# Altium footprint library AltiumOpenLibs.PcbLib: 173 footprints (part 5 of 11)
Each footprint in its own frame and in the unit in brackets; x right, y up, seen from the top. Pads: shape width x height; smd on the part's side, far side on the other; paste and mask are expansions set on the pad; w line width, h text height; cw(c..) or ccw(c..) is an arc to the next point about the centre after c.
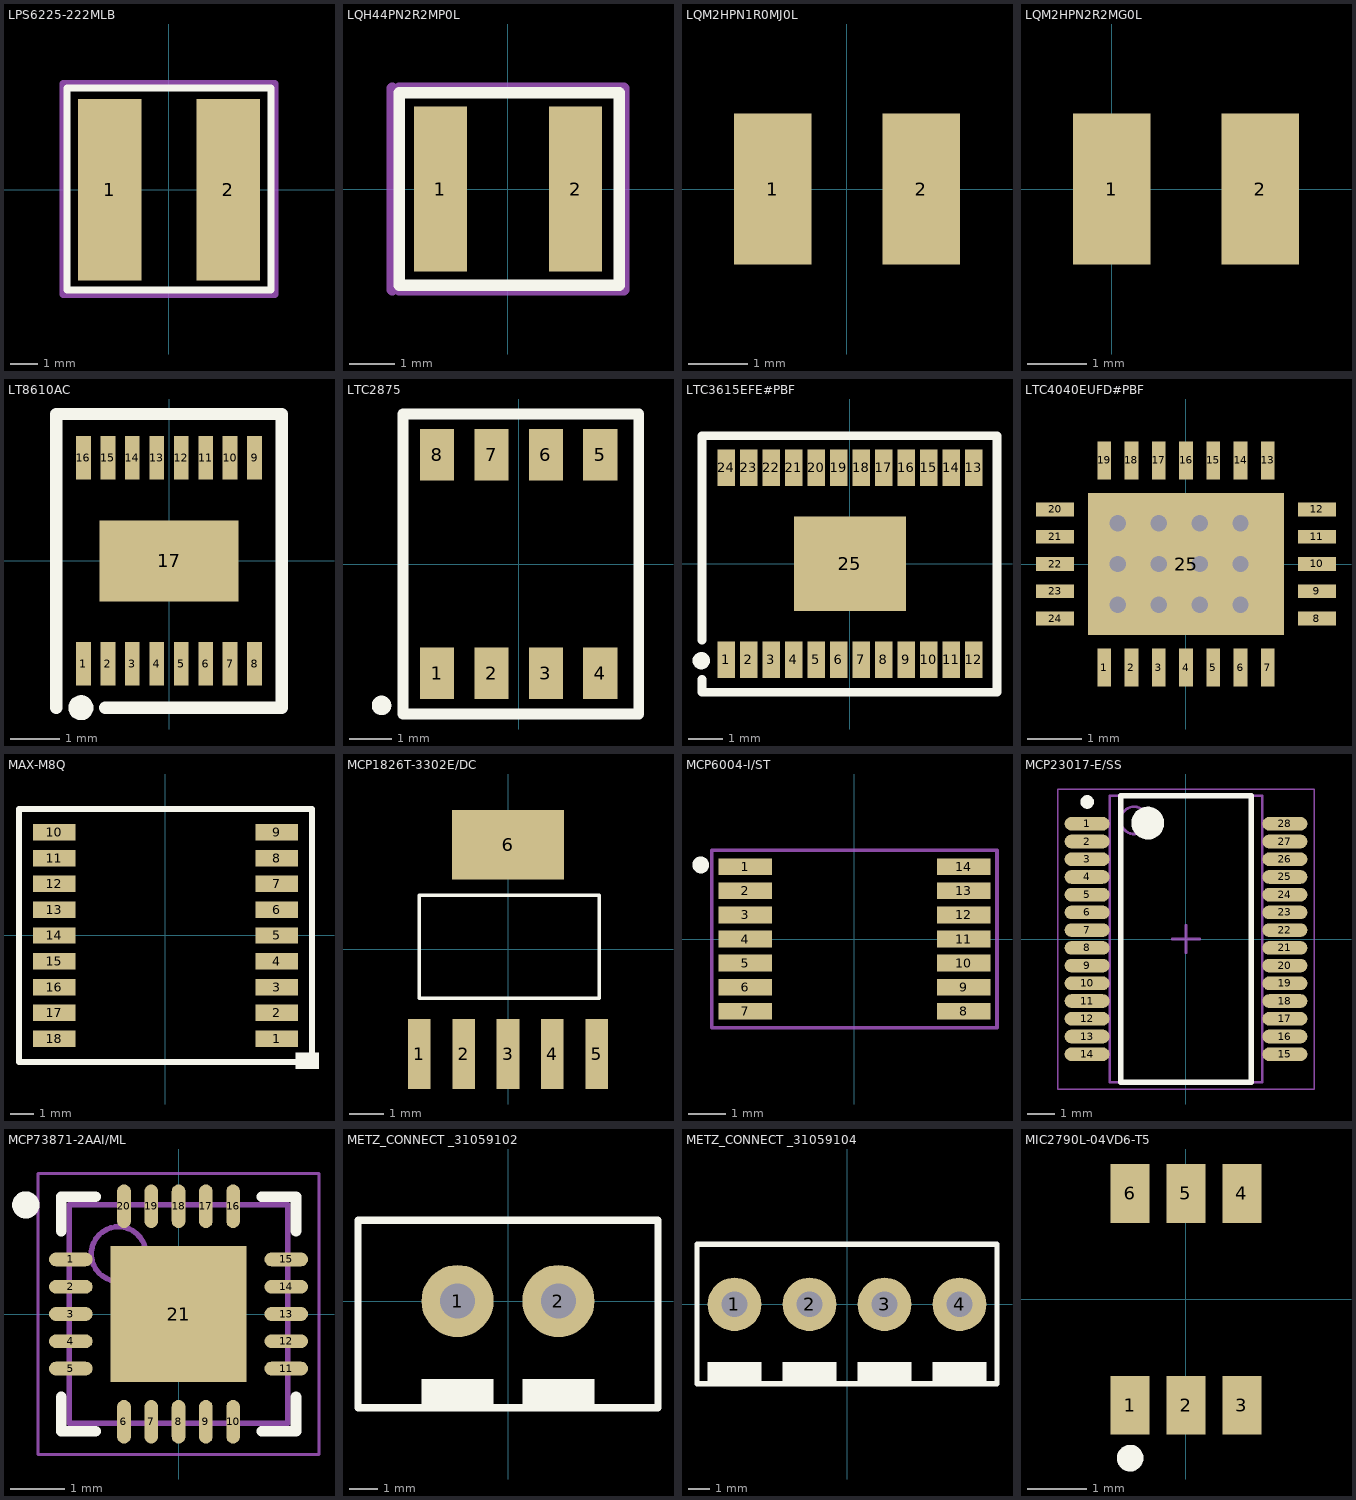
[diagram p4: the footprints below, top view; thin cyan lines are the x and y axes]

## LPS6225-222MLB [mm]
pads (2):
  rect 2.3x6.6 smd: 1(-2.15,0) 2(2.15,0)
Top Overlay:
  lines w0.254: -3.7,-3.65 3.7,-3.65 3.7,3.7 -3.7,3.7 -3.7,-3.65
Mechanical 15:
  lines w0.254: -3.85,-3.8 3.85,-3.8 3.85,3.85 -3.85,3.85 -3.85,-3.8

## LQH44PN2R2MP0L [mm]
pads (2):
  rect 1.15x3.6 smd: 1(-1.475,0) 2(1.475,0)
Top Overlay:
  lines w0.254: -2.375,-2.1 -2.375,2.1 2.425,2.1 2.425,-2.1 -2.375,-2.1
Mechanical 15:
  lines w0.254: -2.525,-2.2 -2.525,2.2 ; -2.375,-2.2 2.525,-2.2 2.525,2.2 -2.375,2.2

## LQM2HPN1R0MJ0L [mm]
pads (2):
  rect 1.3x2.54 smd: 1(-1.25,0) 2(1.25,0)
3D body: height 0.9, standoff 0, extent -1.25,-0.95 1.25,1.05

## LQM2HPN2R2MG0L [mm]
pads (2):
  rect 1.3x2.54 smd: 1(0,0) 2(2.5,0)
3D body: height 0.9, standoff 0, extent 0,-0.95 2.5,1.05

## LT8610AC [mm]
pads (17):
  rect 0.305x0.889 smd: 1(-1.75,-2.105) 2(-1.25,-2.105) 16(-1.75,2.106)
  rect 0.305x0.89 smd: 3(-0.75,-2.105) 4(-0.25,-2.105) 5(0.25,-2.105) 6(0.75,-2.105) 7(1.25,-2.105) 8(1.75,-2.105) 9(1.75,2.106) 10(1.25,2.106) 11(0.75,2.106) 12(0.25,2.106) 13(-0.25,2.106) 14(-0.75,2.106) 15(-1.25,2.106)
  rect 2.845x1.651 smd: 17(0,0)
Top Overlay:
  circle w0.254: c-1.8,-3 r0.128
  lines w0.254: -2.3,-3 -2.3,3 2.3,3 2.3,-3 -1.3,-3
3D body "User Library-MSOP-16.STEP": height 0.86, standoff 0, extent -2.019,-2.45 2.019,2.45

## LTC2875 [mm]
pads (8):
  rect 0.8x1.2 smd: 1(-1.905,-2.55) 2(-0.635,-2.55) 3(0.635,-2.55) 4(1.905,-2.55) 5(1.905,2.55) 6(0.635,2.55) 7(-0.635,2.55) 8(-1.905,2.55)
Top Overlay:
  circle w0.254: c-3.2,-3.3 r0.1
  lines w0.254: -2.7,-3.5 -2.7,-3.4 -2.7,3.5 2.8,3.5 2.8,-3.5 -2.7,-3.5
3D body "User Library-so8-3.STEP": height 1.7, standoff 0, extent -2.42,-3.01 2.48,2.99

## LTC3615EFE#PBF [mm]
pads (25):
  rect 0.5x1.05 smd: 1(-3.575,-2.775) 2(-2.925,-2.775) 3(-2.275,-2.775) 4(-1.625,-2.775) 5(-0.975,-2.775) 6(-0.325,-2.775) 7(0.325,-2.775) 8(0.975,-2.775) 9(1.625,-2.775) 10(2.275,-2.775) 11(2.925,-2.775) 12(3.575,-2.775) 13(3.575,2.775) 14(2.925,2.775) 15(2.275,2.775) 16(1.625,2.775) 17(0.975,2.775) 18(0.325,2.775) 19(-0.325,2.775) 20(-0.975,2.775) 21(-1.625,2.775) 22(-2.275,2.775) 23(-2.925,2.775) 24(-3.575,2.775)
  rect 3.25x2.74 smd: 25(0,0)
Top Overlay:
  circle w0.254: c-4.3,-2.8 r0.122
  lines w0.254: -4.28,-3.34 -4.28,-3.71 4.25,-3.71 4.25,3.7 -4.28,3.7 -4.28,-2.21
3D body "SW3dPS-AD8400 TSSOP.STEP": height 1.15, standoff -0.03, extent -3.91,-3.203 3.98,3.203

## LTC4040EUFD#PBF [mm]
pads (25):
  rect 0.25x0.7 smd: 1(-1.5,-1.9) 2(-1,-1.9) 3(-0.5,-1.9) 4(0,-1.9) 5(0.5,-1.9) 6(1,-1.9) 7(1.5,-1.9) 13(1.5,1.9) 14(1,1.9) 15(0.5,1.9) 16(0,1.9) 17(-0.5,1.9) 18(-1,1.9) 19(-1.5,1.9)
  rect 0.7x0.25 smd: 8(2.4,-1) 9(2.4,-0.5) 10(2.4,0) 11(2.4,0.5) 12(2.4,1) 20(-2.4,1) 21(-2.4,0.5) 22(-2.4,0) 23(-2.4,-0.5) 24(-2.4,-1)
  rect 3.6x2.6 all layers, no hole: 25(0,0)
via 1,-0.75 diameter 0.3 hole 0.3
via 0.25,0 diameter 0.3 hole 0.3
via -0.5,0 diameter 0.3 hole 0.3
via -0.5,0.75 diameter 0.3 hole 0.3
via 0.25,0.75 diameter 0.3 hole 0.3
via 1,0.75 diameter 0.3 hole 0.3
via 1,0 diameter 0.3 hole 0.3
via 0.25,-0.75 diameter 0.3 hole 0.3
via -0.5,-0.75 diameter 0.3 hole 0.3
via -1.25,-0.75 diameter 0.3 hole 0.3
via -1.25,0 diameter 0.3 hole 0.3
via -1.25,0.75 diameter 0.3 hole 0.3
3D body: height 0.26, standoff 0, extent -2.51,-1.1 -2.21,-0.9
3D body: height 0.26, standoff 0, extent -2.51,0.9 -2.21,1.1
3D body: height 0.26, standoff 0, extent -2.51,0.4 -2.21,0.6
3D body: height 0.26, standoff 0, extent -2.51,-0.6 -2.21,-0.4
3D body: height 0.26, standoff 0, extent -2.51,-0.1 -2.21,0.1
3D body: height 0.26, standoff 0, extent -0.61,1.71 -0.41,2.01
3D body: height 0.26, standoff 0, extent -1.11,1.71 -0.91,2.01
3D body: height 0.26, standoff 0, extent -1.61,1.71 -1.41,2.01
3D body: height 0.26, standoff 0, extent 1.4,1.71 1.6,2.01
3D body: height 0.26, standoff 0, extent 0.9,1.71 1.1,2.01
3D body: height 0.26, standoff 0, extent -0.1,1.71 0.1,2.01
3D body: height 0.26, standoff 0, extent 0.4,1.71 0.6,2.01
3D body: height 0.26, standoff 0, extent 2.21,-1.1 2.51,-0.9
3D body: height 0.26, standoff 0, extent 2.21,-0.6 2.51,-0.4
3D body: height 0.26, standoff 0, extent 2.21,0.4 2.51,0.6
3D body: height 0.26, standoff 0, extent 2.21,-0.1 2.51,0.1
3D body: height 0.26, standoff 0, extent 0.4,-2.01 0.6,-1.71
3D body: height 0.26, standoff 0, extent 0.9,-2.01 1.1,-1.71
3D body: height 0.26, standoff 0, extent 1.4,-2.01 1.6,-1.71
3D body: height 0.26, standoff 0, extent -0.6,-2.01 -0.4,-1.71
3D body: height 0.26, standoff 0, extent -0.1,-2.01 0.1,-1.71
3D body: height 0.26, standoff 0, extent -1.1,-2.01 -0.9,-1.71
3D body: height 0.26, standoff 0, extent -1.6,-2.01 -1.4,-1.71
3D body: height 0.76, standoff 0.01, extent -2.5,-2 2.5,2

## MAX-M8Q [mm]
pads (18):
  rect 1.8x0.7 smd: 1(4.75,-4.4) 2(4.75,-3.3) 3(4.75,-2.2) 4(4.75,-1.1) 5(4.75,0) 6(4.75,1.1) 7(4.75,2.2) 8(4.75,3.3) 9(4.75,4.4) 10(-4.75,4.4) 11(-4.75,3.3) 12(-4.75,2.2) 13(-4.75,1.1) 14(-4.75,0) 15(-4.75,-1.1) 16(-4.75,-2.2) 17(-4.75,-3.3) 18(-4.75,-4.4)
Top Overlay:
  rectangle: 5.55,-5.7 6.55,-5
  lines w0.254: -6.25,-5.4 6.25,-5.4 6.25,5.4 -6.25,5.4 -6.25,-5.4

## MCP1826T-3302E/DC [mm]
pads (6):
  rect 0.65x2 smd: 1(-2.54,-3) 2(-1.27,-3) 3(0,-3) 4(1.27,-3) 5(2.54,-3)
  rect 3.2x2 smd: 6(0,3)
Top Overlay:
  lines w0.1: -2.55,-1.4 2.61,-1.4 2.61,1.56 -2.55,1.56 -2.55,-1.4

## MCP6004-I/ST [mm]
pads (14):
  rect 1.45x0.45 smd: 1(-2.95,1.95) 2(-2.95,1.3) 3(-2.95,0.65) 4(-2.95,0) 5(-2.95,-0.65) 6(-2.95,-1.3) 7(-2.95,-1.95) 8(2.95,-1.95) 9(2.95,-1.3) 10(2.95,-0.65) 11(2.95,0) 12(2.95,0.65) 13(2.95,1.3) 14(2.95,1.95)
Top Overlay:
  circle w0.254: c-4.15,2 r0.1
Mechanical 15:
  lines w0.1: -3.85,-2.4 -3.85,2.4 3.85,2.4 3.85,-2.4 -3.85,-2.4

## MCP23017-E/SS [mm] "SOP, 28-Leads, Body 10.20x5.30mm, Pitch 0.65mm, IPC Medium Density"
height 2
pads (28):
  oval 1.65x0.5 smd: 1(-3.625,4.225) 2(-3.625,3.575) 3(-3.625,2.925) 4(-3.625,2.275) 5(-3.625,1.625) 6(-3.625,0.975) 7(-3.625,0.325) 8(-3.625,-0.325) 9(-3.625,-0.975) 10(-3.625,-1.625) 11(-3.625,-2.275) 12(-3.625,-2.925) 13(-3.625,-3.575) 14(-3.625,-4.225) 15(3.625,-4.225) 16(3.625,-3.575) 17(3.625,-2.925) 18(3.625,-2.275) 19(3.625,-1.625) 20(3.625,-0.975) 21(3.625,-0.325) 22(3.625,0.325) 23(3.625,0.975) 24(3.625,1.625) 25(3.625,2.275) 26(3.625,2.925) 27(3.625,3.575) 28(3.625,4.225)
Top Overlay:
  circle w0.25: c-3.625,5.025 r0.125
  circle w0.6: c-1.4,4.25 r0.3
  lines w0.2: -2.4,-5.25 -2.4,5.25 2.4,5.25 2.4,-5.25 -2.4,-5.25
Mechanical 13:
  circle w0.1: c-1.9,4.35 r0.5
  lines w0.1: -2.8,-5.25 -2.8,5.25 2.8,5.25 2.8,-5.25 -2.8,-5.25
Mechanical 15:
  lines w0.05: -4.7,-5.5 -4.7,5.5 4.7,5.5 4.7,-5.5 -4.7,-5.5
  lines w0.1: -0.5,0 0.5,0 ; 0,-0.5 0,0.5
3D body: height 2, standoff 0.05, extent -2.8,-5.25 2.8,5.25

## MCP73871-2AAI/ML [mm] "QFN, 20-Leads, Body 4.00x4.00mm, Pitch 0.50mm, Thermal Pad 2.70x2.70mm, IPC Medium Density"
height 0.9
pads (21):
  oval 0.8x0.25 smd: 1(-1.975,1) 2(-1.975,0.5) 3(-1.975,0) 4(-1.975,-0.5) 5(-1.975,-1) 11(1.975,-1) 12(1.975,-0.5) 13(1.975,0) 14(1.975,0.5) 15(1.975,1)
  oval 0.25x0.8 smd: 6(-1,-1.975) 7(-0.5,-1.975) 8(0,-1.975) 9(0.5,-1.975) 10(1,-1.975) 16(1,1.975) 17(0.5,1.975) 18(0,1.975) 19(-0.5,1.975) 20(-1,1.975)
  rect 2.5x2.5 smd: 21(0,0)
Top Overlay:
  circle w0.25: c-2.8,2 r0.125
  lines w0.2: -2.15,-1.525 -2.15,-2.15 -1.525,-2.15 ; -2.15,1.525 -2.15,2.15 -1.525,2.15 ; 1.525,-2.15 2.15,-2.15 2.15,-1.525 ; 1.525,2.15 2.15,2.15 2.15,1.525
Mechanical 13:
  circle w0.1: c-1.1,1.1 r0.5
  lines w0.1: -2,-2 2,-2 2,2 -2,2 -2,-2
Mechanical 15:
  lines w0.05: -2.575,-2.575 2.575,-2.575 2.575,2.575 -2.575,2.575 -2.575,-2.575
  lines w0.1: -0.5,0 0.5,0 ; 0,-0.5 0,0.5
3D body: height 0.9, standoff 0.02, extent -2,-2 2,2

## METZ_CONNECT _31059102 [mm]
pads (2):
  round 2.5 hole 1.2: 1(-1.75,0) 2(1.75,0)
Top Overlay:
  rectangle: 0.5,-3.7 3,-2.7
  rectangle: -3,-3.7 -0.5,-2.7
  lines w0.254: -5.2,-3.7 -5.2,2.8 5.2,2.8 5.2,-3.7 -5.2,-3.7

## METZ_CONNECT _31059104 [mm]
pads (4):
  round 2.5 hole 1.2: 1(-5.25,0) 2(-1.75,0) 3(1.75,0) 4(5.25,0)
Top Overlay:
  rectangle: -6.5,-3.7 -4,-2.7
  rectangle: -3,-3.7 -0.5,-2.7
  rectangle: 4,-3.7 6.5,-2.7
  rectangle: 0.5,-3.7 3,-2.7
  lines w0.254: -7,-3.7 7,-3.7 7,2.8 -7,2.8 -7,-3.7

## MIC2790L-04VD6-T5 [mm]
pads (6):
  rect 0.66x1 smd mask+0.07: 1(-0.95,-1.8) 2(0,-1.8) 3(0.95,-1.8) 4(0.95,1.8) 5(0,1.8) 6(-0.95,1.8)
Top Overlay:
  circle w0.254: c-0.95,-2.7 r0.1